# Altium schematic symbol library Conn_JST_S4B-PH-K-S_LF_SN_eec.SchLib: 1 symbol
Pins are listed as number, name and electrical type; pins without a type are passive.

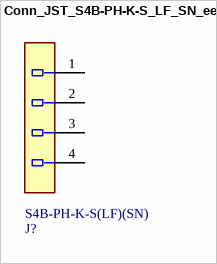
[diagram p0: symbol Conn_JST_S4B-PH-K-S_LF_SN_eec]

## Conn_JST_S4B-PH-K-S_LF_SN_eec
designator J?  Part Number: S4B-PH-K-S(LF)(SN)
CONN HEADER PH SIDE 4POS 2MM; Manufacturer: JST; helpURL: https://upverter.com/upn/revision/a04d3038e6c69606/; ComponentLink2Description: Datasheet; Temperature: -25°C to +85°C; Package: HDR4; Supplier 2: Mouser; Price: 0.141609370397; Supplier 1: Digi-Key; ComponentLink1URL: https://upverter.com/upn/revision/a04d3038e6c69606/; Supplier Part Number 1: 455-1721-ND; ComponentLink1Description: Upverter; ComponentLink2URL: http://www.jst-mfg.com/product/pdf/eng/ePH.pdf; RoHS: TRUE; Temperature Range High: +85°C; Digikey Description: CONN HEADER PH SIDE 4POS 2MM; Digikey Part Number: 455-1721-ND; Temperature Range Low: -25°C; Lead Free: yes
footprint JST_S4B-PH-K-S_LF_SN_0
pins: 1, 2, 3, 4